# Altium footprint library XTAL_32k.PcbLib: 1 footprints
Each footprint in its own frame and in the unit in brackets; x right, y up, seen from the top. Pads: shape width x height; smd on the part's side, far side on the other; paste and mask are expansions set on the pad; w line width, h text height; cw(c..) or ccw(c..) is an arc to the next point about the centre after c.
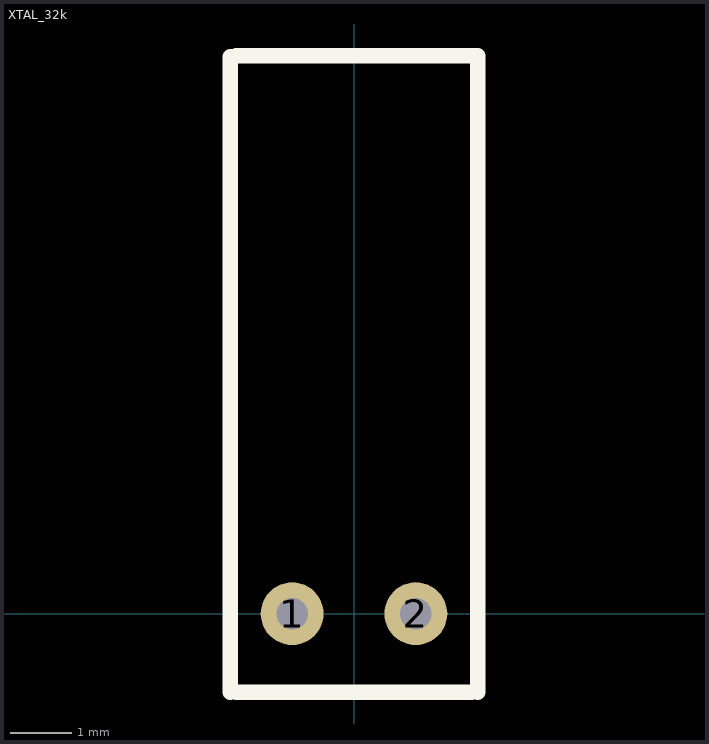
[diagram p0: the footprint, top view; thin cyan lines are the x and y axes]

## XTAL_32k [mil]
pads (2):
  round 40 hole 20: 1(-39.37,0) 2(39.37,0)
Top Overlay:
  lines w10: -78.74,-50 -78.74,354.33 ; -75,-50 75,-50 ; -75,355 78.74,355 78.74,-50